# Altium footprint library 2020-01-24_05-05-02.PcbLib: 3 footprints
Each footprint in its own frame and in the unit in brackets; x right, y up, seen from the top. Pads: shape width x height; smd on the part's side, far side on the other; paste and mask are expansions set on the pad; w line width, h text height; cw(c..) or ccw(c..) is an arc to the next point about the centre after c.
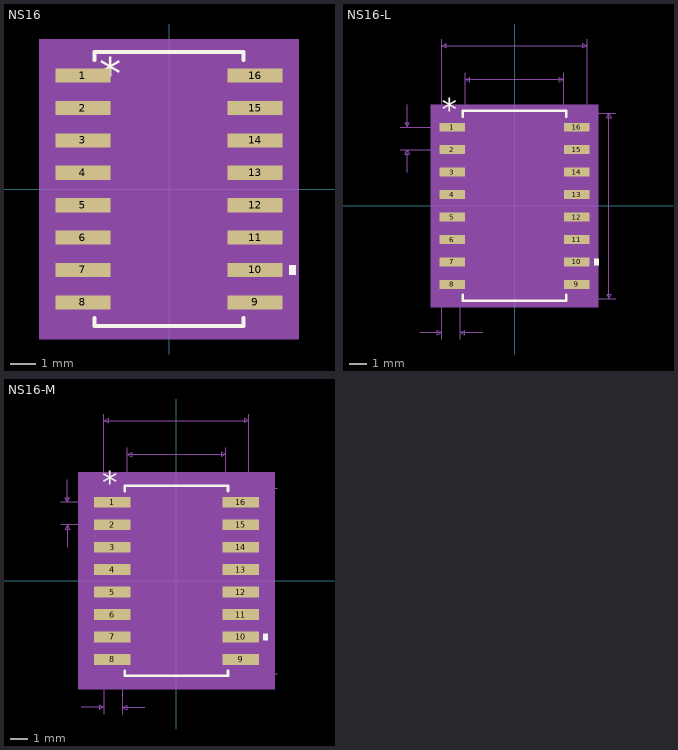
[diagram p0: the footprints below, top view; thin cyan lines are the x and y axes]

## NS16 [mil]
pads (16):
  rect 85x22 smd: 1(-133,175) 2(-133,125) 3(-133,75) 4(-133,25) 5(-133,-25) 6(-133,-75) 7(-133,-125) 8(-133,-175) 9(133,-175) 10(133,-125) 11(133,-75) 12(133,-25) 13(133,25) 14(133,75) 15(133,125) 16(133,175)
Top Overlay:
  region: 185.5,-117.5 195.5,-117.5 195.5,-132.5 185.5,-132.5
  lines w6: -115,-199.1 -115,-211.5 115,-211.5 115,-199.1 ; -115,199.1 -115,211.5 115,211.5 115,199.1
  text "*" at -107.5,153.5 h50
Mechanical 5:
  region: 200.5,-231.5 -200.5,-231.5 -200.5,231.5 200.5,231.5
Mechanical 13:
  lines w0: -12,206.5 ccw(c0,206.5) 12,206.5
  lines w1: -161.5,-185 -110,-185 -110,-165 -161.5,-165 -161.5,-185 ; -161.5,-135 -110,-135 -110,-115 -161.5,-115 -161.5,-135 ; -161.5,-85 -110,-85 -110,-65 -161.5,-65 -161.5,-85 ; -161.5,-35 -110,-35 -110,-15 -161.5,-15 -161.5,-35 ; -161.5,15 -110,15 -110,35 -161.5,35 -161.5,15 ; -161.5,65 -110,65 -110,85 -161.5,85 -161.5,65 ; -161.5,115 -110,115 -110,135 -161.5,135 -161.5,115 ; -161.5,165 -110,165 -110,185 -161.5,185 -161.5,165 ; -110,-206.5 -110,206.5 110,206.5 110,-206.5 -110,-206.5 ; 110,-185 161.5,-185 161.5,-165 110,-165 110,-185 ; 110,-135 161.5,-135 161.5,-115 110,-115 110,-135 ; 110,-85 161.5,-85 161.5,-65 110,-65 110,-85 ; 110,-35 161.5,-35 161.5,-15 110,-15 110,-35 ; 110,15 161.5,15 161.5,35 110,35 110,15 ; 110,65 161.5,65 161.5,85 110,85 110,65 ; 110,115 161.5,115 161.5,135 110,135 110,115 ; 110,165 161.5,165 161.5,185 110,185 110,165
  text "*" at -107.5,153.5 h50
Mechanical 15:
  region: -120,-202 -185.5,-202 -185.5,202 -120,202 -120,216.5 120,216.5 120,202 185.5,202 185.5,-202 120,-202 120,-216.5 -120,-216.5
  lines w6: -185.5,-202 -120,-202 -120,-216.5 120,-216.5 120,-202 185.5,-202 185.5,202 120,202 120,216.5 -120,216.5 -120,202 -185.5,202 -185.5,-202
3D body: height 10, standoff 0, extent 0,0 10,10

## NS16-L [mil]
pads (16):
  rect 57x20 smd paste+0 mask+0: 1(-139,175) 2(-139,125) 3(-139,75) 4(-139,25) 5(-139,-25) 6(-139,-75) 7(-139,-125) 8(-139,-175) 9(139,-175) 10(139,-125) 11(139,-75) 12(139,-25) 13(139,25) 14(139,75) 15(139,125) 16(139,175)
Top Overlay:
  region: 177.5,-117.5 187.5,-117.5 187.5,-132.5 177.5,-132.5
  lines w6: -115,-198.1 -115,-211.5 115,-211.5 115,-198.1 ; -115,198.1 -115,211.5 115,211.5 115,198.1
  text "*" at -161.5,190 h50
Mechanical 5:
  region: 186.5,-225.5 -186.5,-225.5 -186.5,225.5 186.5,225.5
Mechanical 7:
  lines w1: -254,125 -139,125 ; -254,175 -139,175 ; -239,75 -239,125 ; -239,225 -239,175 ; -211.5,-281.5 -161.5,-281.5 ; -161.5,-296.5 -161.5,0 -161.5,371.5 ; -120.5,-296.5 -120.5,0 ; -110,0 -110,296.5 ; -70.5,-281.5 -120.5,-281.5 ; 0,-206.5 225,-206.5 ; 0,206.5 225,206.5 ; 110,0 110,296.5 ; 161.5,0 161.5,371.5 ; -239,125 -234,115 -244,115 -239,125 ; -239,175 -234,185 -244,185 -239,175 ; -161.5,-281.5 -171.5,-286.5 -171.5,-276.5 -161.5,-281.5 ; -161.5,356.5 -151.5,351.5 -151.5,361.5 -161.5,356.5 ; -161.5,356.5 161.5,356.5 ; -120.5,-281.5 -110.5,-286.5 -110.5,-276.5 -120.5,-281.5 ; -110,281.5 -100,276.5 -100,286.5 -110,281.5 ; -110,281.5 110,281.5 ; 110,281.5 100,276.5 100,286.5 110,281.5 ; 161.5,356.5 151.5,351.5 151.5,361.5 161.5,356.5 ; 210,-206.5 215,-196.5 205,-196.5 210,-206.5 ; 210,-206.5 210,206.5 ; 210,206.5 215,196.5 205,196.5 210,206.5
  text "0.041in/1.041mm" at -234.75,-326.5 h25
  text "0.05in/1.27mm" at -421.5,137.5 h25
  text "0.413in/10.49mm" at 230,-12.5 h25
  text "0.323in/8.204mm" at -93.75,376.5 h25
  text "0.22in/5.588mm" at -87.5,301.5 h25
  text "Alt 2 Padstyle: OX90Y60D30P" at -337.5,-706.5 h50
  text "Alt 1 Padstyle: OX60Y90D30P" at -337.5,-646.5 h50
  text "Pin One Padstyle: RX57Y20D0T" at -350,-466.5 h50
  text "Default Padstyle: RX57Y20D0T" at -350,-406.5 h50
Mechanical 13:
  lines w0: -12,206.5 ccw(c0,206.5) 12,206.5
  lines w1: -161.5,-185 -110,-185 -110,-165 -161.5,-165 -161.5,-185 ; -161.5,-135 -110,-135 -110,-115 -161.5,-115 -161.5,-135 ; -161.5,-85 -110,-85 -110,-65 -161.5,-65 -161.5,-85 ; -161.5,-35 -110,-35 -110,-15 -161.5,-15 -161.5,-35 ; -161.5,15 -110,15 -110,35 -161.5,35 -161.5,15 ; -161.5,65 -110,65 -110,85 -161.5,85 -161.5,65 ; -161.5,115 -110,115 -110,135 -161.5,135 -161.5,115 ; -161.5,165 -110,165 -110,185 -161.5,185 -161.5,165 ; -110,-206.5 -110,206.5 110,206.5 110,-206.5 -110,-206.5 ; 110,-185 161.5,-185 161.5,-165 110,-165 110,-185 ; 110,-135 161.5,-135 161.5,-115 110,-115 110,-135 ; 110,-85 161.5,-85 161.5,-65 110,-65 110,-85 ; 110,-35 161.5,-35 161.5,-15 110,-15 110,-35 ; 110,15 161.5,15 161.5,35 110,35 110,15 ; 110,65 161.5,65 161.5,85 110,85 110,65 ; 110,115 161.5,115 161.5,135 110,135 110,115 ; 110,165 161.5,165 161.5,185 110,185 110,165
  text "*" at -107.5,153.5 h50
Mechanical 15:
  region: -114,-189 -171.5,-189 -171.5,189 -114,189 -114,210.5 114,210.5 114,189 171.5,189 171.5,-189 114,-189 114,-210.5 -114,-210.5
  lines w6: -171.5,-189 -114,-189 -114,-210.5 114,-210.5 114,-189 171.5,-189 171.5,189 114,189 114,210.5 -114,210.5 -114,189 -171.5,189 -171.5,-189
3D body: height 10, standoff 0, extent 0,0 10,10

## NS16-M [mil]
pads (16):
  rect 81x24 smd paste+0 mask+0: 1(-143,175) 2(-143,125) 3(-143,75) 4(-143,25) 5(-143,-25) 6(-143,-75) 7(-143,-125) 8(-143,-175) 9(143,-175) 10(143,-125) 11(143,-75) 12(143,-25) 13(143,25) 14(143,75) 15(143,125) 16(143,175)
Top Overlay:
  region: 193.5,-117.5 203.5,-117.5 203.5,-132.5 193.5,-132.5
  lines w6: -115,-200.1 -115,-211.5 115,-211.5 115,-200.1 ; -115,200.1 -115,211.5 115,211.5 115,200.1
  text "*" at -165.5,194 h50
Mechanical 5:
  region: 218.5,-241.5 -218.5,-241.5 -218.5,241.5 218.5,241.5
Mechanical 7:
  lines w1: -258,125 -143,125 ; -258,175 -143,175 ; -243,75 -243,125 ; -243,225 -243,175 ; -211.5,-281.5 -161.5,-281.5 ; -161.5,-296.5 -161.5,0 -161.5,371.5 ; -120.5,-296.5 -120.5,0 ; -110,0 -110,296.5 ; -70.5,-281.5 -120.5,-281.5 ; 0,-206.5 225,-206.5 ; 0,206.5 225,206.5 ; 110,0 110,296.5 ; 161.5,0 161.5,371.5 ; -243,125 -248,115 -238,115 -243,125 ; -243,175 -248,185 -238,185 -243,175 ; -161.5,-281.5 -171.5,-276.5 -171.5,-286.5 -161.5,-281.5 ; -161.5,356.5 161.5,356.5 ; -161.5,356.5 -151.5,361.5 -151.5,351.5 -161.5,356.5 ; -120.5,-281.5 -110.5,-276.5 -110.5,-286.5 -120.5,-281.5 ; -110,281.5 110,281.5 ; -110,281.5 -100,286.5 -100,276.5 -110,281.5 ; 110,281.5 100,286.5 100,276.5 110,281.5 ; 161.5,356.5 151.5,361.5 151.5,351.5 161.5,356.5 ; 210,-206.5 210,206.5 ; 210,-206.5 205,-196.5 215,-196.5 210,-206.5 ; 210,206.5 205,196.5 215,196.5 210,206.5
  text "Default Padstyle: RX81Y24D0T" at -350,-406.5 h50
  text "Pin One Padstyle: RX81Y24D0T" at -350,-466.5 h50
  text "Alt 1 Padstyle: OX60Y90D30P" at -337.5,-646.5 h50
  text "Alt 2 Padstyle: OX90Y60D30P" at -337.5,-706.5 h50
  text "0.22in/5.588mm" at -87.5,301.5 h25
  text "0.323in/8.204mm" at -93.75,376.5 h25
  text "0.413in/10.49mm" at 230,-12.5 h25
  text "0.05in/1.27mm" at -425.5,137.5 h25
  text "0.041in/1.041mm" at -234.75,-326.5 h25
Mechanical 13:
  lines w0: -12,206.5 ccw(c0,206.5) 12,206.5
  lines w1: -161.5,-185 -161.5,-165 -110,-165 -110,-185 -161.5,-185 ; -161.5,-135 -161.5,-115 -110,-115 -110,-135 -161.5,-135 ; -161.5,-85 -161.5,-65 -110,-65 -110,-85 -161.5,-85 ; -161.5,-35 -161.5,-15 -110,-15 -110,-35 -161.5,-35 ; -161.5,15 -161.5,35 -110,35 -110,15 -161.5,15 ; -161.5,65 -161.5,85 -110,85 -110,65 -161.5,65 ; -161.5,115 -161.5,135 -110,135 -110,115 -161.5,115 ; -161.5,165 -161.5,185 -110,185 -110,165 -161.5,165 ; -110,-206.5 110,-206.5 110,206.5 -110,206.5 -110,-206.5 ; 110,-185 110,-165 161.5,-165 161.5,-185 110,-185 ; 110,-135 110,-115 161.5,-115 161.5,-135 110,-135 ; 110,-85 110,-65 161.5,-65 161.5,-85 110,-85 ; 110,-35 110,-15 161.5,-15 161.5,-35 110,-35 ; 110,15 110,35 161.5,35 161.5,15 110,15 ; 110,65 110,85 161.5,85 161.5,65 110,65 ; 110,115 110,135 161.5,135 161.5,115 110,115 ; 110,165 110,185 161.5,185 161.5,165 110,165
  text "*" at -107.5,153.5 h50
Mechanical 15:
  region: -130,-207 -203.5,-207 -203.5,207 -130,207 -130,226.5 130,226.5 130,207 203.5,207 203.5,-207 130,-207 130,-226.5 -130,-226.5
  lines w6: -203.5,-207 -203.5,207 -130,207 -130,226.5 130,226.5 130,207 203.5,207 203.5,-207 130,-207 130,-226.5 -130,-226.5 -130,-207 -203.5,-207
3D body: height 10, standoff 0, extent 0,0 10,10